# EAGLE library part TESEO-LIV3F (library chiptron_cz)
Teseo-LIV3F
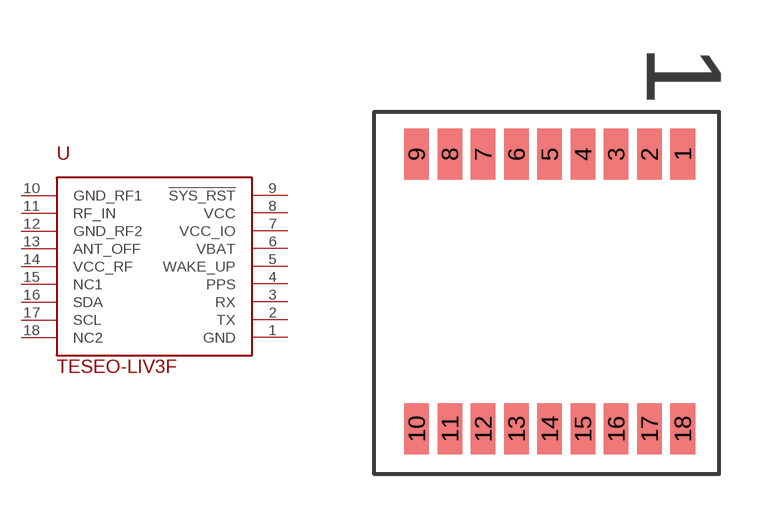
[diagram p17: symbol with the pads of TESEO-LIV3F; footprint TESEO-LIV3F]

Designator prefix -

## TESEO-LIV3F  [TESEO-LIV3F]
1  GND  pwr
2  TX
3  RX
4  PPS  out
5  WAKE_UP  in
6  VBAT  pwr
7  VCC_IO  pwr
8  VCC  pwr
9  !SYS_RST
10  GND_RF1  pwr
11  RF_IN  in
12  GND_RF2  pwr
13  ANT_OFF  out
14  VCC_RF  pwr
15  NC1  nc
16  SDA
17  SCL
18  NC2  nc

## Footprint TESEO-LIV3F (pad centres in mm)
Teseo-LIV3F
smd 0.813 x 1.676: 1 0,0; 2 -1.1,0; 3 -2.2,0; 4 -3.3,0; 5 -4.4,0; 6 -5.5,0; 7 -6.6,0; 8 -7.7,0; 9 -8.8,0; 10 -8.8,-9.1; 11 -7.7,-9.1; 12 -6.6,-9.1; 13 -5.5,-9.1; 14 -4.4,-9.1; 15 -3.3,-9.1; 16 -2.2,-9.1; 17 -1.1,-9.1; 18 0,-9.1